# Altium footprint library PA4344.104NLT.PcbLib: 1 footprints
Each footprint in its own frame and in the unit in brackets; x right, y up, seen from the top. Pads: shape width x height; smd on the part's side, far side on the other; paste and mask are expansions set on the pad; w line width, h text height; cw(c..) or ccw(c..) is an arc to the next point about the centre after c.
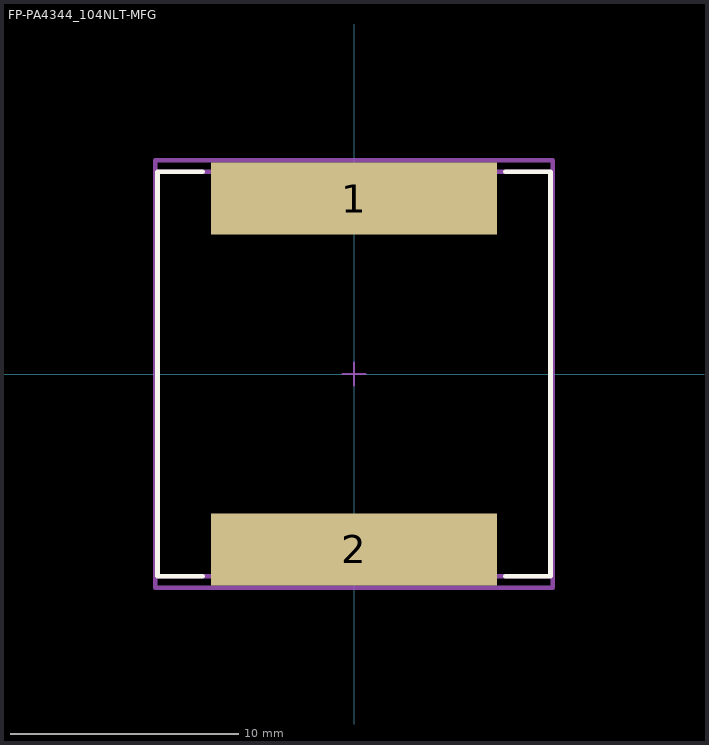
[diagram p0: the footprint, top view; thin cyan lines are the x and y axes]

## FP-PA4344_104NLT-MFG [mm]
pads (2):
  rect 12.5x3.15 smd paste+0 mask+0: 1(0,7.675) 2(0,-7.675)
Top Overlay:
  lines w0.2: -6.625,-8.85 -8.6,-8.85 -8.6,8.85 -6.625,8.85 ; 6.625,-8.85 8.6,-8.85 8.6,8.85 6.625,8.85
Mechanical 5:
  lines w0.2: -8.7,-9.35 8.7,-9.35 8.7,9.35 -8.7,9.35 -8.7,-9.35
  text ".Designator" at 0,0.188 h1
Mechanical 13:
  lines w0.2: -8.6,-8.85 8.6,-8.85 8.6,8.85 -8.6,8.85 -8.6,-8.85
Mechanical 15:
  lines w0.2: -8.7,-9.35 8.7,-9.35 8.7,9.35 -8.7,9.35 -8.7,-9.35
Mechanical 16:
  lines w0.1: -0.5,0 0.5,0 ; 0,-0.5 0,0.5
3D body "Ind_Pulse_Electronics_PA4344_104NLT_eec.STEP": height 0.25, standoff 0, extent -8.7,-9.35 8.7,9.35